# Altium footprint library DANCE_LIB_REV2.PcbLib: 146 footprints (part 1 of 10)
Each footprint in its own frame and in the unit in brackets; x right, y up, seen from the top. Pads: shape width x height; smd on the part's side, far side on the other; paste and mask are expansions set on the pad; w line width, h text height; cw(c..) or ccw(c..) is an arc to the next point about the centre after c.
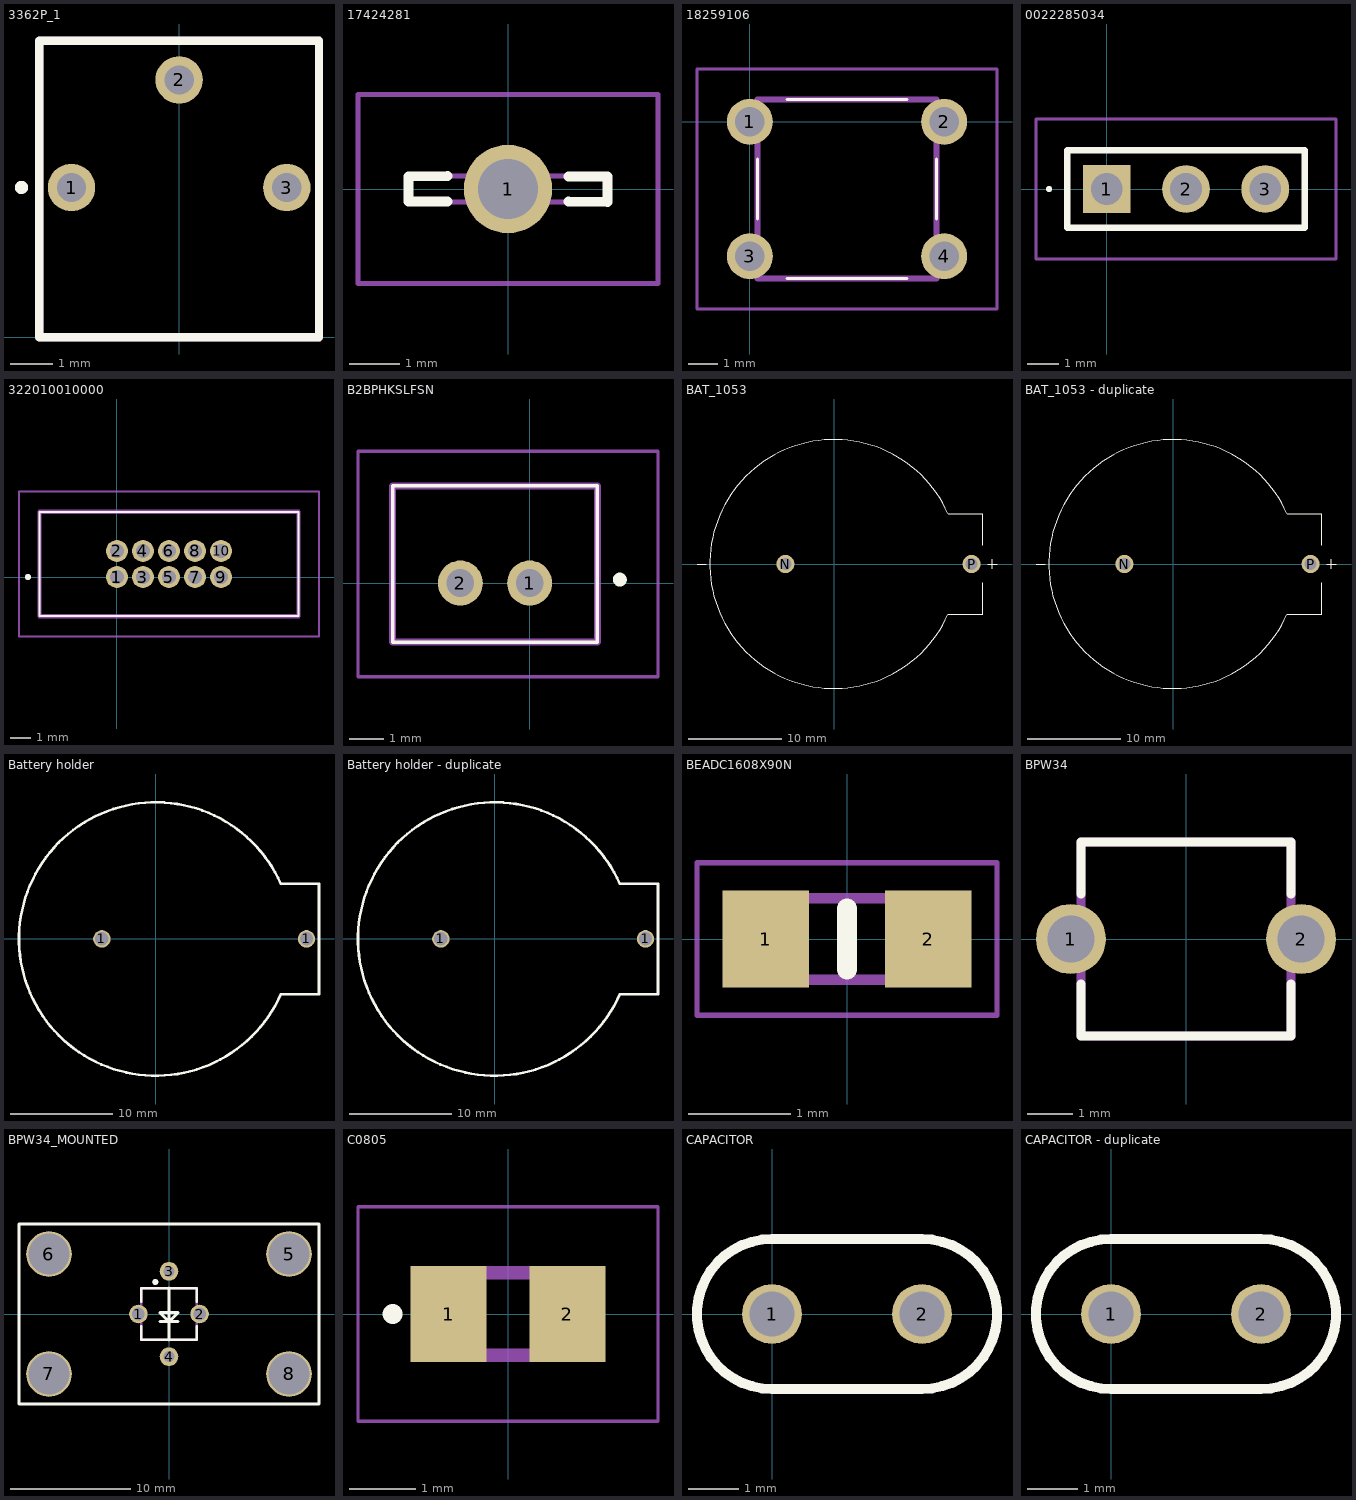
[diagram p0: the footprints below, top view; thin cyan lines are the x and y axes]

## 3362P_1 [mm]
pads (3):
  round 1.12 hole 0.69: 1(-2.54,3.53) 2(0,6.07) 3(2.54,3.53)
Top Overlay:
  circle w0.2: c-3.722,3.532 r0.057
  lines w0.2: -3.3,0 3.3,0 3.3,6.99 -3.3,6.99 -3.3,0
Mechanical 13:
  lines w0.2: -3.3,0 -3.3,6.99 3.3,6.99 3.3,0 -3.3,0
3D body "3362P-1-303LF.stp": height 4.65, standoff -4.85, extent -3.3,0 3.3,6.99

## 17424281 [mm]
pads (1):
  round 1.755 hole 1.194: 1(0,0)
Top Overlay:
  lines w0.2: -1.2,-0.25 -1.98,-0.25 -1.98,0.25 -1.2,0.255 ; 1.2,-0.25 1.98,-0.255 1.98,0.25 1.2,0.25
Mechanical 13:
  lines w0.1: -1.98,-0.255 -1.98,0.255 1.98,0.255 1.98,-0.255 -1.98,-0.255
Mechanical 15:
  lines w0.1: -2.98,-1.878 -2.98,1.878 2.98,1.878 2.98,-1.878 -2.98,-1.878
3D body "1742428-1.stp": height 9.21, standoff -2.58, extent -1.981,-0.251 1.981,0.251

## 18259106 [mm]
pads (4):
  round 1.54 hole 0.99: 1(0,0) 2(6.5,0) 3(0,-4.5) 4(6.5,-4.5)
Top Overlay:
  lines w0.1: 0.25,-1.25 0.255,-3.25 ; 1.25,-5.25 5.25,-5.25 ; 1.25,0.75 5.25,0.75 ; 6.245,-1.25 6.25,-3.25
Mechanical 13:
  lines w0.2: 0.255,-5.245 0.255,0.745 6.245,0.745 6.245,-5.245 0.255,-5.245
Mechanical 15:
  lines w0.1: -1.77,-6.27 -1.77,1.77 8.27,1.77 8.27,-6.27 -1.77,-6.27
3D body "1825910-6.stp": height 5.64, standoff -2.87, extent -0.65,-5.245 7.15,0.745

## 0022285034 [mm]
pads (3):
  rect 1.53x1.53 hole 1.02: 1(0,0)
  round 1.53 hole 1.02: 2(2.54,0) 3(5.08,0)
Top Overlay:
  lines w0.1: -1.9,0 ccw(c-1.85,0) -1.8,0 ccw(c-1.85,0) -1.9,0
  lines w0.2: -1.27,-1.245 -1.27,1.245 6.35,1.245 6.35,-1.245 -1.27,-1.245
Mechanical 13:
  lines w0.1: -1.27,-1.245 -1.27,1.245 6.35,1.245 6.35,-1.245 -1.27,-1.245
Mechanical 15:
  lines w0.1: -2.27,-2.245 -2.27,2.245 7.35,2.245 7.35,-2.245 -2.27,-2.245
3D body "0022285034.stp": height 10.77, standoff -5, extent -1.27,-1.245 6.35,1.245

## 322010010000 [mm]
pads (10):
  round 1.07 hole 0.7: 1(0,0) 2(0,1.27) 3(1.27,0) 4(1.27,1.27) 5(2.54,0) 6(2.54,1.27) 7(3.81,0) 8(3.81,1.27) 9(5.08,0) 10(5.08,1.27)
Top Overlay:
  lines w0.1: -3.785,-1.915 8.865,-1.915 8.865,3.185 -3.785,3.185 -3.785,-1.915
  lines w0.2: -4.4,0 cw(c-4.35,0) -4.3,0 ; -4.4,0 ccw(c-4.35,0) -4.3,0 ; -4.4,0 cw(c-4.35,0) -4.3,0
Mechanical 13:
  lines w0.2: -3.785,-1.915 8.865,-1.915 8.865,3.185 -3.785,3.185 -3.785,-1.915
Mechanical 15:
  lines w0.1: -4.785,-2.915 9.865,-2.915 9.865,4.185 -4.785,4.185 -4.785,-2.915
3D body "3220-10-0100-00.stp": height 5.63, standoff -1.92, extent -3.866,-1.99 8.946,3.254

## B2BPHKSLFSN [mm]
pads (2):
  round 1.3 hole 0.8: 1(0,0) 2(-2,0)
Top Overlay:
  lines w0.1: -3.95,-1.7 -3.95,2.8 1.95,2.8 1.95,-1.7 -3.95,-1.7
  lines w0.2: 2.6,0 cw(c2.6,0.1) 2.6,0.2 cw(c2.6,0.1) 2.6,0
Mechanical 13:
  lines w0.2: -3.95,-1.7 -3.95,2.8 1.95,2.8 1.95,-1.7 -3.95,-1.7
Mechanical 15:
  lines w0.1: -4.95,-2.7 -4.95,3.8 3.7,3.8 3.7,-2.7 -4.95,-2.7
3D body "B2B-PH-K-S__LF__SN_.stp": height 5.91, standoff -3.49, extent -3.95,-1.53 1.95,2.97

## BAT_1053 [mm]
height 9.5
pads (2):
  round 1.95 hole 1.3: N(-5.25,0) P(14.77,0)
Top Overlay:
  lines w0.127: 15.99,-2 15.99,-5.4 ; 15.99,2 15.99,5.4 ; 15.99,-5.4 12.236,-5.4 15.99,-5.4 ; 15.99,5.4 12.236,5.4 15.99,5.4 ; -14.75,0 -13.75,0 -14.75,0 ; 12.219,-5.44 cw(c0,0) 12.219,5.44 ccw(c0,0) 12.219,-5.44 ; 16.5,0 17.5,0 16.5,0 ; 17,-0.5 17,0.5 17,-0.5

## BAT_1053 - duplicate [mm]
height 9.5
pads (2):
  round 1.95 hole 1.3: N(-5.25,0) P(14.77,0)
Top Overlay:
  lines w0.127: 15.99,-2 15.99,-5.4 ; 15.99,2 15.99,5.4 ; 15.99,-5.4 12.236,-5.4 15.99,-5.4 ; 15.99,5.4 12.236,5.4 15.99,5.4 ; -14.75,0 -13.75,0 -14.75,0 ; 12.219,-5.44 cw(c0,0) 12.219,5.44 ccw(c0,0) 12.219,-5.44 ; 16.5,0 17.5,0 16.5,0 ; 17,-0.5 17,0.5 17,-0.5

## Battery holder [mm]
pads (2):
  round 1.7 hole 1.3: 1(-5.27,0) 1(14.75,0)
Top Overlay:
  lines w0.254: 12.233,5.393 ccw(c0,-0.014) 12.243,-5.4 15.97,-5.4 15.97,0 15.97,5.4 12.233,5.4

## Battery holder - duplicate [mm]
pads (2):
  round 1.7 hole 1.3: 1(-5.27,0) 1(14.75,0)
Top Overlay:
  lines w0.254: 12.233,5.393 ccw(c0,-0.014) 12.243,-5.4 15.97,-5.4 15.97,0 15.97,5.4 12.233,5.4

## BEADC1608X90N [mm]
pads (2):
  rect 0.85x0.95 smd: 1(-0.8,0) 2(0.8,0)
Top Overlay:
  lines w0.2: 0,-0.3 0,0.3
Mechanical 13:
  lines w0.1: -0.8,-0.4 0.8,-0.4 0.8,0.4 -0.8,0.4 -0.8,-0.4
Mechanical 15:
  lines w0.05: -1.475,-0.75 1.475,-0.75 1.475,0.75 -1.475,0.75 -1.475,-0.75
3D body "FBMH1608HM601-T.stp": height 0.9, standoff 0, extent -0.8,-0.4 0.8,0.4

## BPW34 [mm]
pads (2):
  round 1.55 hole 1.05: 1(-2.55,0) 2(2.55,0)
Top Overlay:
  lines w0.2: -2.325,-1 -2.325,-2.15 2.325,-2.15 2.325,-1 ; -2.325,1 -2.325,2.15 2.325,2.15 2.325,1
Mechanical 13:
  lines w0.2: -2.325,-2.15 -2.325,2.15 2.325,2.15 2.325,-2.15 -2.325,-2.15
3D body "BPW34.stp": height 2.06, standoff -3.44, extent -2.7,-2.15 2.7,2.15

## BPW34_MOUNTED [mm] "PHOTODIODE FOOTPRINT"
pads (8):
  round 1.55 hole 1.05: 1(-2.55,0) 2(2.55,0)
  round 1.55 hole 0.914: 3(0,3.556) 4(0,-3.556)
  round 3.81 hole 3.4: 5(10,5) 6(-10,5) 7(-10,-5) 8(10,-5)
Top Overlay:
  circle w0.254: c-1.143,2.667 r0.127
  lines w0.2: -2.325,-1 -2.325,-2.15 2.325,-2.15 2.325,-1 ; -2.325,1 -2.325,2.15 2.325,2.15 2.325,1
  lines w0.254: -0.762,-0.635 0,-0.635 ; 0,-2.15 0,2.15 ; 0.762,-0.635 0,-0.635 ; 0,-0.635 -0.762,0.127 0.762,0.127 0,-0.635 ; -12.5,-7.5 12.5,-7.5 12.5,7.5 -12.5,7.5 -12.5,-7.5
Mechanical 13:
  lines w0.2: -2.325,-2.15 2.325,-2.15 2.325,2.15 -2.325,2.15 -2.325,-2.15
3D body "BPW34.stp": height 2.06, standoff -3.44, extent -2.7,-2.15 2.7,2.15

## C0805 [mm]
pads (2):
  rect 1.15x1.45 smd: 1(-0.9,0) 2(0.9,0)
Top Overlay:
  circle w0.2: c-1.75,0 r0.05
Mechanical 13:
  lines w0.2: -1,-0.625 1,-0.625 1,0.625 -1,0.625 -1,-0.625
Mechanical 15:
  lines w0.05: -2.275,-1.625 2.275,-1.625 2.275,1.625 -2.275,1.625 -2.275,-1.625
3D body "C0805C475K4RACTU.stp": height 1.45, standoff 0, extent -1.1,-0.73 1.1,0.72

## CAPACITOR [mm]
pads (2):
  round 1.2 hole 0.9: 1(0,0) 2(3,0)
Top Overlay:
  lines w0.2: 0,-1.5 cw(c0,0) 0,1.5 3,1.5 cw(c3,0) 3,-1.5 0,-1.5

## CAPACITOR - duplicate [mm]
pads (2):
  round 1.2 hole 0.9: 1(0,0) 2(3,0)
Top Overlay:
  lines w0.2: 0,-1.5 cw(c0,0) 0,1.5 3,1.5 cw(c3,0) 3,-1.5 0,-1.5